# EAGLE library part M5STACK_MBUS_S3 (library m5stack-connector)
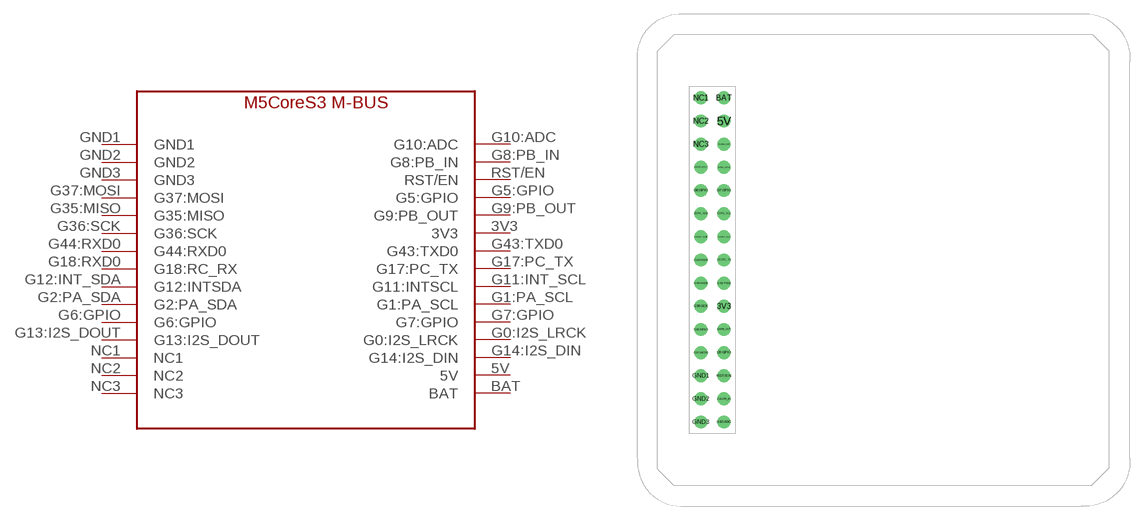
[diagram p1: symbol with the pads of PINHEAD2X15CORESHOLELESS; footprint PINHEAD2X15CORESHOLELESS]

Designator prefix -

## M5STACK_MBUS_S3  [PINHEAD2X15CORESHOLELESS]
3V3  3V3
5V  5V
BAT  BAT
G0:I2S_LRCK  G0:I2S_LRCK
G1:PA_SCL  G1:PA_SCL
G2:PA_SDA  G2:PA_SDA
G5:GPIO  G5:GPIO
G6:GPIO  G6:GPIO
G7:GPIO  G7:GPIO
G8:PB_IN  G8:PB_IN
G9:PB_OUT  G9:PB_OUT
G10:ADC  G10:ADC
G11:INT_SCL  G11:INTSCL
G12:INT_SDA  G12:INTSDA
G13:I2S_DOUT  G13:I2S_DOUT
G14:I2S_DIN  G14:I2S_DIN
G17:PC_TX  G17:PC_TX
G18:RXD0  G18:RC_RX
G35:MISO  G35:MISO
G36:SCK  G36:SCK
G37:MOSI  G37:MOSI
G43:TXD0  G43:TXD0
G44:RXD0  G44:RXD0
GND1  GND1
GND2  GND2
GND3  GND3
NC1  NC1
NC2  NC2
NC3  NC3
RST/EN  RST/EN

## Footprint PINHEAD2X15CORESHOLELESS (pad centres in mm)
drill 0.9: 3V3 1.27,-5.08; 5V 1.27,15.24; BAT 1.27,17.78; G0:I2S_LRCK 1.27,10.16; G1:PA_SCL 1.27,5.08; G2:PA_SDA -1.27,5.08; G5:GPIO 1.27,-10.16; G6:GPIO -1.27,7.62; G7:GPIO 1.27,7.62; G8:PB_IN 1.27,-15.24; G9:PB_OUT 1.27,-7.62; G10:ADC 1.27,-17.78; G11:INT_SCL 1.27,2.54; G12:INT_SDA -1.27,2.54; G13:I2S_DOUT -1.27,10.16; G14:I2S_DIN 1.27,12.7; G17:PC_TX 1.27,0; G18:RXD0 -1.27,0; G35:MISO -1.27,-7.62; G36:SCK -1.27,-5.08; G37:MOSI -1.27,-10.16; G43:TXD0 1.27,-2.54; G44:RXD0 -1.27,-2.54; GND1 -1.27,-12.7; GND2 -1.27,-15.24; GND3 -1.27,-17.78; NC1 -1.27,17.78; NC2 -1.27,15.24; NC3 -1.27,12.7; RST/EN 1.27,-12.7